# Altium schematic symbol library Oscillator_Schlib.SchLib: 10 symbols
Pins are listed as number, name and electrical type; pins without a type are passive.

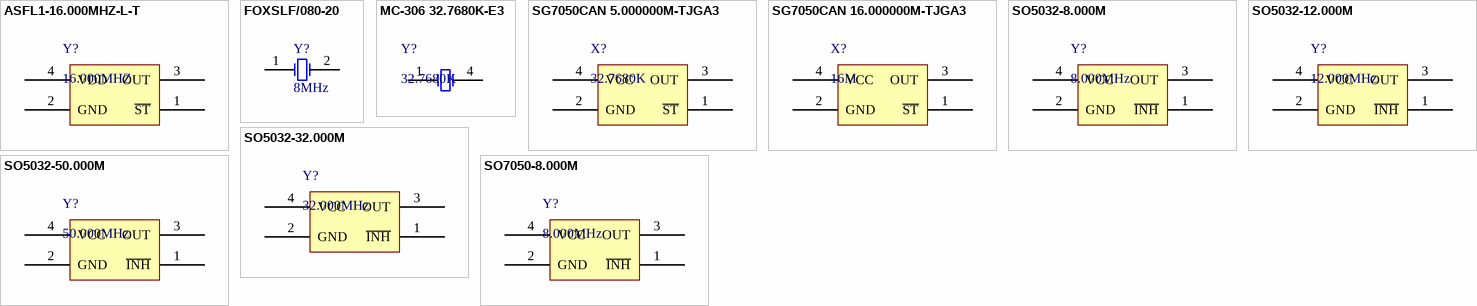
[diagram p0: symbols ASFL1-16.000MHZ-L-T to SO7050-8.000M]

## ASFL1-16.000MHZ-L-T
designator Y?, comment 16.000MHZ
標準時鐘振盪器 16MHz 100ppm 3.3Volts -40C +85C; 製造商: ABRACON; 單價: 56.73; 代理商: mouser; 資料手冊: http://www.mouser.com/ds/2/3/ASFL1-44402.pdf; 參考網站: http://www.mouser.tw/ProductDetail/ABRACON/ASFL1-16000MHZ-L-T/?qs=sGAEpiMZZMt8zWNA7msRCsZmskVU8BbI9nHtp4VtSmw%3d
footprint ASFL1
pins: 1 ~{ST} (power), 2 GND (power), 3 OUT (power), 4 VDD (power)

## FOXSLF/080-20
designator Y?, comment 8MHz
液晶元件 8MHz 20pF; 製造商: Fox; 單價: 18.2; 代理商: mouser; 資料手冊: http://www.mouser.com/ds/2/160/hc49slf-16141.pdf; 參考網站: http://www.mouser.tw/ProductDetail/Fox/FOXSLF-080-20/?qs=sGAEpiMZZMsBj6bBr9Q9aRTaFt3VVGplZ5%252bx3NNCQpU%3d
footprint HC-49/US
pins: 1 OSC1, 2 OSC2

## MC-306 32.7680K-E3
designator Y?, comment 32.7680K
液晶元件 32.768KHz 6pF 20ppm -40C +85C; 製造商: Epson Timing; 單價: 28.54; 代理商: mouser; 參考網站: http://www.mouser.tw/ProductDetail/Epson-Timing/MC-306-327680K-E3ROHS/?qs=sGAEpiMZZMsBj6bBr9Q9aZLqXgWtLYAXFtesQCSVD9E%3d; 資料手冊: http://www.mouser.com/ds/2/137/1705479-465430.pdf
footprint MC-306
pins: 1 OSC1, 4 OSC2

## SG7050CAN 5.000000M-TJGA3
designator X?, comment 32.7680K
標準時鐘振盪器 5MHz 50ppm -40C +85C; 製造商: Epson Timing; 單價: 45.31; 代理商: mouser; 參考網站: http://www.mouser.tw/ProductDetail/Epson-Timing/SG7050CAN-5000000M-TJGA3/?qs=sGAEpiMZZMt8zWNA7msRCrhcg48ZG9oDb0gs2BopLdfXUzZO7rQUbw%3d%3d; 資料手冊: http://www.mouser.com/ds/2/137/034_SG5032_7050CxN_E146-520820.pdf
footprint SG7050CAN
pins: 1 ~{ST} (power), 2 GND (power), 3 OUT (power), 4 VCC (power)

## SG7050CAN 16.000000M-TJGA3
designator X?, comment 16M
標準時鐘振盪器 16MHz 50ppm -40C +85C 工作電壓1.6 V to 3.6 V; 製造商: Epson Timing; 單價: 45.31; 代理商: mouser; 參考網站: http://www.mouser.tw/ProductDetail/Epson-Timing/SG7050CAN-16000000M-TJGA3/?qs=sGAEpiMZZMt8zWNA7msRCrhcg48ZG9oDgWnMej2yZ1VFarK63EC3jw%3d%3d; 資料手冊: http://www.mouser.com/ds/2/137/034_SG5032_7050CxN_E146-520820.pdf
footprint SG7050CAN
pins: 1 ~{ST} (power), 2 GND (power), 3 OUT (power), 4 VCC (power)

## SO5032-8.000M
designator Y?, comment 8.000MHz
SMD Crystal OSC-CMOS Output 5.0*3.2*1.3, 3.3V; 製造商: YOKE; 單價: 93.84; 參考網站: http://www.yoketant.com.tw/yoketant/page11-s.htm; 資料手冊: http://www.yoketant.com.tw/yoketant/page11_pic-s.htm; 代理商: *
footprint SG5032
pins: 1 ~{INH} (power), 2 GND (power), 3 OUT (power), 4 VCC (power)

## SO5032-12.000M
designator Y?, comment 12.000MHz
SMD Crystal OSC-CMOS Output 5.0*3.2*1.3, 3.3V; 製造商: YOKE; 單價: 93.84; 參考網站: http://www.yoketant.com.tw/yoketant/page11-s.htm; 資料手冊: http://www.yoketant.com.tw/yoketant/page11_pic-s.htm; 代理商: *
footprint SG5032
pins: 1 ~{INH} (power), 2 GND (power), 3 OUT (power), 4 VCC (power)

## SO5032-32.000M
designator Y?, comment 32.000MHz
SMD Crystal OSC-CMOS Output 5.0*3.2*1.3, 3.3V; 製造商: YOKE; 單價: 93.84; 參考網站: http://www.yoketant.com.tw/yoketant/page11-s.htm; 資料手冊: http://www.yoketant.com.tw/yoketant/page11_pic-s.htm; 代理商: *
footprint SG5032
pins: 1 ~{INH} (power), 2 GND (power), 3 OUT (power), 4 VCC (power)

## SO5032-50.000M
designator Y?, comment 50.000MHz
SMD Crystal OSC-CMOS Output 5.0*3.2*1.3, 3.3V; 製造商: YOKE; 單價: 93.84; 參考網站: http://www.yoketant.com.tw/yoketant/page11-s.htm; 資料手冊: http://www.yoketant.com.tw/yoketant/page11_pic-s.htm; 代理商: *
footprint SG5032
pins: 1 ~{INH} (power), 2 GND (power), 3 OUT (power), 4 VCC (power)

## SO7050-8.000M
designator Y?, comment 8.000MHz
SMD Crystal OSC-CMOS Output 7.0*5.0*1.4; 製造商: YOKE; 單價: 93.84; 參考網站: http://www.yoketant.com.tw/yoketant/page37-s.htm; 資料手冊: http://www.yoketant.com.tw/yoketant/page37_pic-s.htm; 代理商: *
footprint SG7050CAN
pins: 1 ~{INH} (power), 2 GND (power), 3 OUT (power), 4 VCC (power)